# EAGLE library part 6510 (library commodore)
Processor used in Commodore 64 and VIC-10.
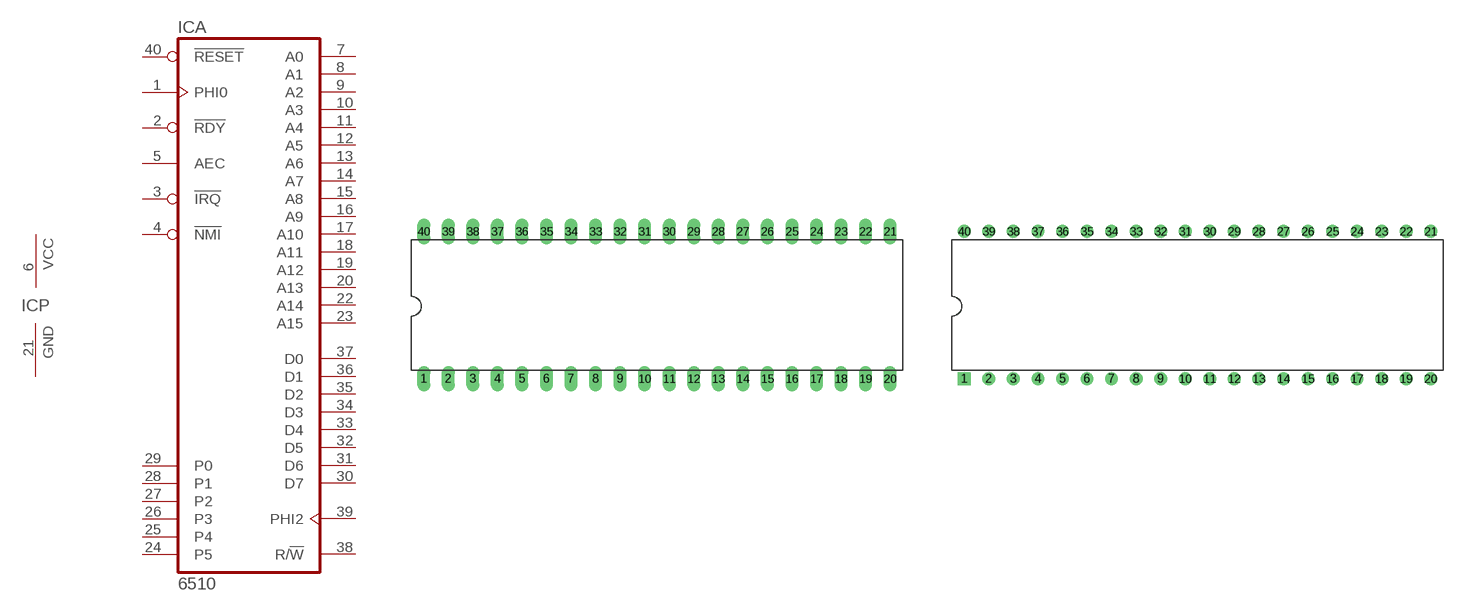
[diagram p15: symbol with the pads of DIL40; footprints DIL40, DIL40-ROUNDPAD]

Designator prefix IC; gates A=6510 P=PWR-GND

## 6510  [DIL40]
1  A:PHI0  in
2  A:!RDY  in
3  A:!IRQ  in
4  A:!NMI  in
5  A:AEC  in
6  P:VCC  pwr
7  A:A0  hiz
8  A:A1  hiz
9  A:A2  hiz
10  A:A3  hiz
11  A:A4  hiz
12  A:A5  hiz
13  A:A6  hiz
14  A:A7  hiz
15  A:A8  hiz
16  A:A9  hiz
17  A:A10  hiz
18  A:A11  hiz
19  A:A12  hiz
20  A:A13  hiz
21  P:GND  pwr
22  A:A14  hiz
23  A:A15  hiz
24  A:P5
25  A:P4
26  A:P3
27  A:P2
28  A:P1
29  A:P0
30  A:D7
31  A:D6
32  A:D5
33  A:D4
34  A:D3
35  A:D2
36  A:D1
37  A:D0
38  A:R/!W  hiz
39  A:PHI2  out
40  A:!RESET  in

## 6510-RP  [DIL40-ROUNDPAD]
Pads as for DIL40

## Footprint DIL40 (pad centres in mm)
Dual In Line Package
drill 0.813 long: 1 -24.13,-7.62; 2 -21.59,-7.62; 3 -19.05,-7.62; 4 -16.51,-7.62; 5 -13.97,-7.62; 6 -11.43,-7.62; 7 -8.89,-7.62; 8 -6.35,-7.62; 9 -3.81,-7.62; 10 -1.27,-7.62; 11 1.27,-7.62; 12 3.81,-7.62; 13 6.35,-7.62; 14 8.89,-7.62; 15 11.43,-7.62; 16 13.97,-7.62; 17 16.51,-7.62; 18 19.05,-7.62; 19 21.59,-7.62; 20 24.13,-7.62; 21 24.13,7.62; 22 21.59,7.62; 23 19.05,7.62; 24 16.51,7.62; 25 13.97,7.62; 26 11.43,7.62; 27 8.89,7.62; 28 6.35,7.62; 29 3.81,7.62; 30 1.27,7.62; 31 -1.27,7.62; 32 -3.81,7.62; 33 -6.35,7.62; 34 -8.89,7.62; 35 -11.43,7.62; 36 -13.97,7.62; 37 -16.51,7.62; 38 -19.05,7.62; 39 -21.59,7.62; 40 -24.13,7.62

## Footprint DIL40-ROUNDPAD (pad centres in mm)
Dual In Line Package
drill 0.813 square: 1 -24.13,-7.62
drill 0.813: 2 -21.59,-7.62; 3 -19.05,-7.62; 4 -16.51,-7.62; 5 -13.97,-7.62; 6 -11.43,-7.62; 7 -8.89,-7.62; 8 -6.35,-7.62; 9 -3.81,-7.62; 10 -1.27,-7.62; 11 1.27,-7.62; 12 3.81,-7.62; 13 6.35,-7.62; 14 8.89,-7.62; 15 11.43,-7.62; 16 13.97,-7.62; 17 16.51,-7.62; 18 19.05,-7.62; 19 21.59,-7.62; 20 24.13,-7.62; 21 24.13,7.62; 22 21.59,7.62; 23 19.05,7.62; 24 16.51,7.62; 25 13.97,7.62; 26 11.43,7.62; 27 8.89,7.62; 28 6.35,7.62; 29 3.81,7.62; 30 1.27,7.62; 31 -1.27,7.62; 32 -3.81,7.62; 33 -6.35,7.62; 34 -8.89,7.62; 35 -11.43,7.62; 36 -13.97,7.62; 37 -16.51,7.62; 38 -19.05,7.62; 39 -21.59,7.62; 40 -24.13,7.62